# EAGLE library part 687124182122 (library Eagle_FPC_CONNECTOR_AND_FFC_CAB (rev18c))
CONFPCI - 0.5 MM PITCH HORIZONTAL DUAL CONTACT, BACK FLIP ACTUATOR=>Code : ConFPC-687124182122 Characteristics INSULATOR: LCP FLAMABILITY RATING: UL94-V0 COLOUR: IVORY CONTACT MATERIAL: PHOSPHOR BRONZE CONTACT PLATING: 80 μ’’ MAT TIN OVER 50 μ’’ NICKEL CONTACT TYPE: STAMPED TAB MATERIAL: BRASS TAB PLATING: 80 μ’’ MAT TIN OVER 50 μ’’ NICKEL TAB TYPE: STAMPED ACTUATOR MATERIAL: PA9T ACTUATOR COLOUR: BLACK QUALITY CLASS: 20 MATING CYCLES PITCH: 0.50 MM PACKAGING:TAPE AND REEL COMPLIANCE: ROHS AND HALOGEN FREE OPERATING TEMPERATURE: -40°C UP TO +105°C ELECTRICAL CURRENT RATING: 0.5A WORKING VOLTAGE: 50 VAC WITHSTANDING VOLTAGE: 0.25 KVAC/min CONTATC RESISTANCE: 30 mOHM INSULATION RESISTANCE: >500 MΩ <http://katalog.we-online.de/media/images/v2/Family_WR-FPC_687186182122.jpg> Details see: http://katalog.we-online.de/en/em/FPC_0_5_SMT_ZIF_HORIZONTAL_DUAL_CONTACT_BACK_LOCKING_6871XX182122 2015 (C) Wurth Elektronik
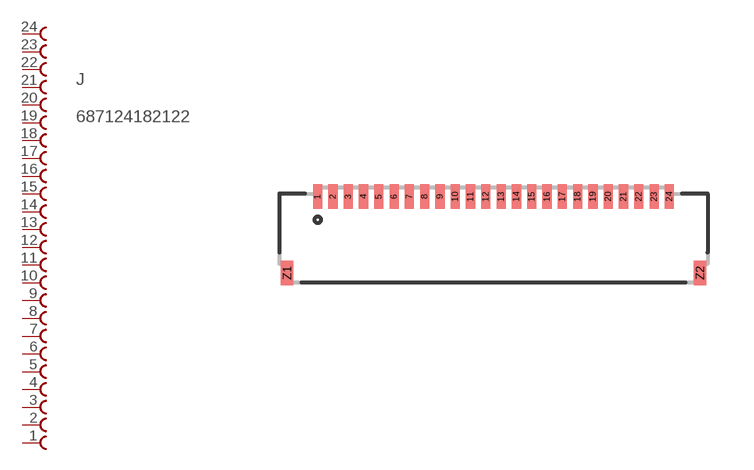
[diagram p137: symbol with the pads of 687124182122; footprint 687124182122]

Designator prefix J

## 687124182122  [687124182122]
1  24  pas
2  23  pas
3  22  pas
4  21  pas
5  20  pas
6  19  pas
7  18  pas
8  17  pas
9  16  pas
10  15  pas
11  14  pas
12  13  pas
13  12  pas
14  11  pas
15  10  pas
16  9  pas
17  8  pas
18  7  pas
19  6  pas
20  5  pas
21  4  pas
22  3  pas
23  2  pas
24  1  pas

## Footprint 687124182122 (pad centres in mm)
smd 0.3 x 0.8: 1 -5.75,1.25; 2 -5.25,1.25; 3 -4.75,1.25; 4 -4.25,1.25; 5 -3.75,1.25; 6 -3.25,1.25; 7 -2.75,1.25; 8 -2.25,1.25; 9 -1.75,1.25; 10 -1.25,1.25; 11 -0.75,1.25; 12 -0.25,1.25; 13 0.25,1.25; 14 0.75,1.25; 15 1.25,1.25; 16 1.75,1.25; 17 2.25,1.25; 18 2.75,1.25; 19 3.25,1.25; 20 3.75,1.25; 21 4.25,1.25; 22 4.75,1.25; 23 5.25,1.25; 24 5.75,1.25
smd 0.4 x 0.8: Z1 -6.75,-1.25; Z2 6.75,-1.25